# Altium schematic symbol library C1210.Schlib: 1 symbol
Pins are listed as number, name and electrical type; pins without a type are passive.

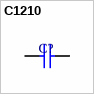
[diagram p0: symbol C1210]

## C1210
designator C?  (value not drawn)
1210 Ceramic Chip Capacitor - Standard
pins: 1, 2